# Altium integrated library GSD090144HR.IntLib: 1 symbol
Pins are listed as number, name and electrical type; pins without a type are passive.

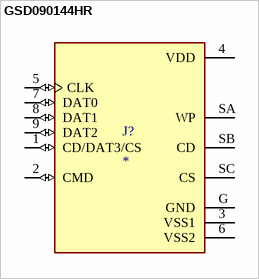
[diagram p0: symbol GSD090144HR]

## GSD090144HR
designator J?
Sd Card Connector, Push-push Type, 9 Position.; MP: GSD090144HR; MF: Amphenol ICC (Commercial Products); Price: None; Availability: In Stock; Package: None; SnapEDA_Link: https://www.snapeda.com/parts/GSD090144HR/Amphenol/view-part/?ref=snap; Check_prices: https://www.snapeda.com/parts/GSD090144HR/Amphenol/view-part/?ref=eda; Value: *; Purchase-URL: https://pricing.snapeda.com/search/part/GSD090144HR/?ref=eda
footprint AMPHENOL_GSD090144HR
pins: 1 CD/DAT3/CS (io), 2 CMD (io), 3 VSS1 (power), 4 VDD (power), 5 CLK (io), 6 VSS2 (power), 7 DAT0 (io), 8 DAT1 (io), 9 DAT2 (io), G GND (power), SA WP, SB CD, SC CS